# Altium schematic symbol library MC100LVELT20DG.SchLib: 1 symbol
Pins are listed as number, name and electrical type; pins without a type are passive.

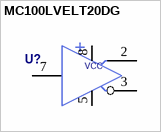
[diagram p0: symbol MC100LVELT20DG]

## MC100LVELT20DG
designator U?  (value not drawn)
pins: 1 NC hidden, 2 Q, 3 ~{Q}, 4 NC hidden, 5 VSS (power), 6 NC hidden, 7 D, 8 VCC (power)